# Altium integrated library 78723-1001.IntLib: 1 symbol
Pins are listed as number, name and electrical type; pins without a type are passive.

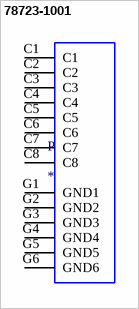
[diagram p0: symbol 78723-1001]

## 78723-1001
designator P
6 Position Card Connector Micro SIM Surface Mount, Right Angle Gold; MF: Molex; MP: 78723-1001; Value: *; Price: None; SnapEDA_Link: https://www.snapeda.com/parts/78723-1001/Molex/view-part/351814/?ref=snap; Package: None; Availability: Unavailable
footprint MOLEX_78723-1001
pins: C1, C2, C3, C4, C5, C6, C7, C8, G1 GND1 (power), G2 GND2 (power), G3 GND3 (power), G4 GND4 (power), G5 GND5 (power), G6 GND6 (power)